# EAGLE library part WPME-VDMM_171936001 (library WPME-VDMM)
MagI³C-VDMM Variable Step Down MicroModule Characteristics Low conducted and radiated EMI (compliant to EN55022 class B / CISPR-22 LGA-6EP Very low profile micropackage Ideal for space constrained applications 3 solder cycles supported LGA-8EP Very low profile micropackage Ideal for space constrained applications For direct connection to 24 V industrial voltage network 3 solder cycles supported Applications Point-of-Load DC/DC applications Replacement for linear regulators Interface and microcontroller supply DSP and FPGA power supply auxiliary voltages Portable instruments Battery powered equipment Sensors <https://www.we-online.com/components/media/o109063v209%20VDMM_Group.jpg> Details see: www.we-online.com/en/components/products/MAGIC-VDMM <www.we-online.com/catalog/MAGIC-VDMM/?utm_source=eagle_model&utm_medium=description_link&utm_campaign=eisos_eagle> Created By Ella Wu 2024-09-09 2024 (C) Wurth Elektronik
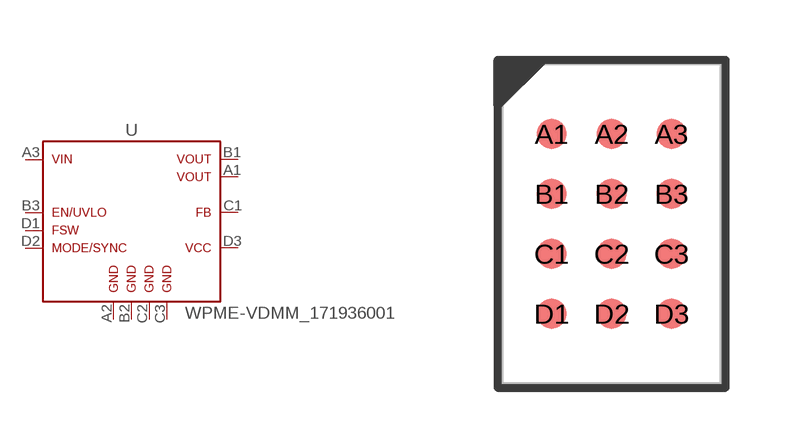
[diagram p3: symbol with the pads of WPME-VDMM_171936001; footprint WPME-VDMM_171936001]

Designator prefix U

## WPME-VDMM_171936001 (DATASHEET-URL: https://www.we-online.com/redexpert/spec/171936001?ae; HEIGHT: 2.4mm; I-OUTPUT: 0.3A; LENGTH: 8mm; MOUNT: SMT; PART-NUMBER: 171936001; TYPE: Overmolded; V-INPUT: 3.5-60V; V-OUTPUT: 0.85-6V; VALUE: 171936001; VERSION: Mode Select; WIDTH: 5.5mm)  [WPME-VDMM_171936001]
A1  A1  pas
A2  A2  pas
A3  A3  pas
B1  B1  pas
B2  B2  pas
B3  B3  pas
C1  C1  pas
C2  C2  pas
C3  C3  pas
D1  D1  pas
D2  D2  pas
D3  D3  pas

## Footprint WPME-VDMM_171936001 (pad centres in mm)
smd 0.75 x 0.75: A1 -1.5,2.25; A2 0,2.25; A3 1.5,2.25; B1 -1.5,0.75; B2 0,0.75; B3 1.5,0.75; C1 -1.5,-0.75; C2 0,-0.75; C3 1.5,-0.75; D1 -1.5,-2.25; D2 0,-2.25; D3 1.5,-2.25